# EAGLE library part LM3880MF-1AA/NOPB (library Controller Board)
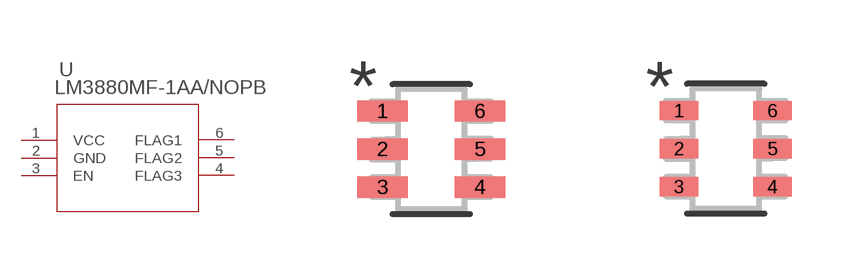
[diagram p2: symbol with the pads of MF06A; footprints MF06A, MF06A-L]

Designator prefix -

## LM3880MF-1AA/NOPB (MANUFACTURER_PART_NUMBER: lm3880mf1aaNOPB; VENDOR: National Semiconductor)  [MF06A]
1  VCC  pwr
2  GND  pwr
3  EN  in
4  FLAG3  pas
5  FLAG2  pas
6  FLAG1  pas

## LM3880MF-1AA/NOPBMF06A-L (MANUFACTURER_PART_NUMBER: lm3880mf1aaNOPB; VENDOR: National Semiconductor)  [MF06A-L]
Pads as for MF06A

## LM3880MF-1AA/NOPBMF06A-M (MANUFACTURER_PART_NUMBER: lm3880mf1aaNOPB; VENDOR: National Semiconductor)  [MF06A-M]
Pads as for MF06A

## Footprint MF06A (pad centres in mm)
smd 1.27 x 0.533: 1 -1.219,0.953; 2 -1.219,0; 3 -1.219,-0.953; 4 1.219,-0.953; 5 1.219,0; 6 1.219,0.953

## Footprint MF06A-L (pad centres in mm)
smd 0.965 x 0.483: 1 -1.168,0.953; 2 -1.168,0; 3 -1.168,-0.953; 4 1.168,-0.953; 5 1.168,0; 6 1.168,0.953

## Footprint MF06A-M (pad centres in mm)
smd 1.575 x 0.584: 1 -1.27,0.953; 2 -1.27,0; 3 -1.27,-0.953; 4 1.27,-0.953; 5 1.27,0; 6 1.27,0.953